# Altium schematic symbol library LED_LiteOn.SchLib: 1 symbol
Pins are listed as number, name and electrical type; pins without a type are passive.

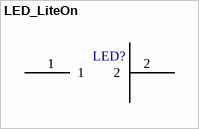
[diagram p0: symbol LED_LiteOn]

## LED_LiteOn
designator LED?
Green, Red, Amber
footprint PCBComponent_1
pins: 1, 2